# EAGLE library part LM3407 (library JoesCustom)
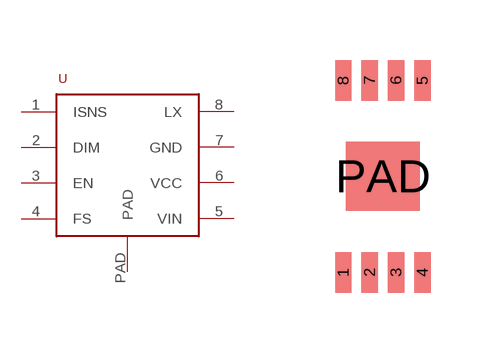
[diagram p8: symbol with the pads of LM3407; footprint LM3407]

Designator prefix -

## LM3407  [LM3407]
1  ISNS
2  DIM
3  EN
4  FS
5  VIN
6  VCC
7  GND
8  LX
PAD  PAD

## Footprint LM3407 (pad centres in mm)
smd 0.406 x 1.016: 1 -0.991,-2.4; 2 -0.33,-2.4; 3 0.33,-2.4; 4 0.991,-2.4; 5 0.991,2.4; 6 0.33,2.4; 7 -0.33,2.4; 8 -0.991,2.4
smd 1.854 x 1.727: PAD 0,0